# EAGLE library part 96B-LS-NRPN202MAMP (library U96-SVM)
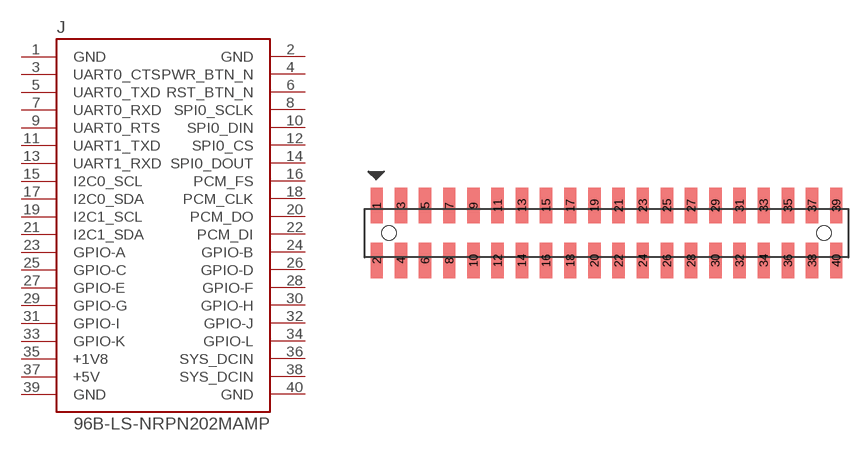
[diagram p12: symbol with the pads of NRPN202MAMP; footprint NRPN202MAMP]

Designator prefix J

## 96B-LS-NRPN202MAMP  [NRPN202MAMP]
1  GND
2  GND
3  UART0_CTS
4  PWR_BTN_N
5  UART0_TXD
6  RST_BTN_N
7  UART0_RXD
8  SPI0_SCLK
9  UART0_RTS
10  SPI0_DIN
11  UART1_TXD
12  SPI0_CS
13  UART1_RXD
14  SPI0_DOUT
15  I2C0_SCL
16  PCM_FS
17  I2C0_SDA
18  PCM_CLK
19  I2C1_SCL
20  PCM_DO
21  I2C1_SDA
22  PCM_DI
23  GPIO-A
24  GPIO-B
25  GPIO-C
26  GPIO-D
27  GPIO-E
28  GPIO-F
29  GPIO-G
30  GPIO-H
31  GPIO-I
32  GPIO-J
33  GPIO-K
34  GPIO-L
35  +1V8
36  SYS_DCIN
37  +5V
38  SYS_DCIN
39  GND
40  GND

## Footprint NRPN202MAMP (pad centres in mm)
smd 1.02 x 2.95: 1 -19,2.275; 2 -19,-2.275; 3 -17,2.275; 4 -17,-2.275; 5 -15,2.275; 6 -15,-2.275; 7 -13,2.275; 8 -13,-2.275; 9 -11,2.275; 10 -11,-2.275; 11 -9,2.275; 12 -9,-2.275; 13 -7,2.275; 14 -7,-2.275; 15 -5,2.275; 16 -5,-2.275; 17 -3,2.275; 18 -3,-2.275; 19 -1,2.275; 20 -1,-2.275; 21 1,2.275; 22 1,-2.275; 23 3,2.275; 24 3,-2.275; 25 5,2.275; 26 5,-2.275; 27 7,2.275; 28 7,-2.275; 29 9,2.275; 30 9,-2.275; 31 11,2.275; 32 11,-2.275; 33 13,2.275; 34 13,-2.275; 35 15,2.275; 36 15,-2.275; 37 17,2.275; 38 17,-2.275; 39 19,2.275; 40 19,-2.275
hole 1.2 at 18,0
hole 1.2 at -18,0